# EAGLE library part TC2030-MCP-NL-TOP (library stepOSP)
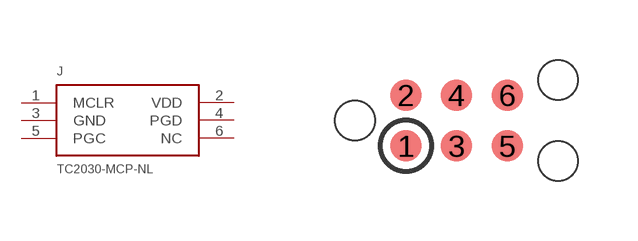
[diagram p27: symbol with the pads of TC2030-IDC-NL-TOP; footprint TC2030-IDC-NL-TOP]

Designator prefix J

## TC2030-MCP-NL-TOP  [TC2030-IDC-NL-TOP]
1  MCLR
2  VDD
3  GND
4  PGD
5  PGC
6  NC

## Footprint TC2030-IDC-NL-TOP (pad centres in mm)
smd 0.787 x 0.787: 1 -1.27,-0.635; 2 -1.27,0.635; 3 0,-0.635; 4 0,0.635; 5 1.27,-0.635; 6 1.27,0.635
hole 0.991 at -2.54,0
hole 0.991 at 2.54,1.016
hole 0.991 at 2.54,-1.016